# Altium schematic symbol library Schlib.SchLib: 26 symbols
Pins are listed as number, name and electrical type; pins without a type are passive.

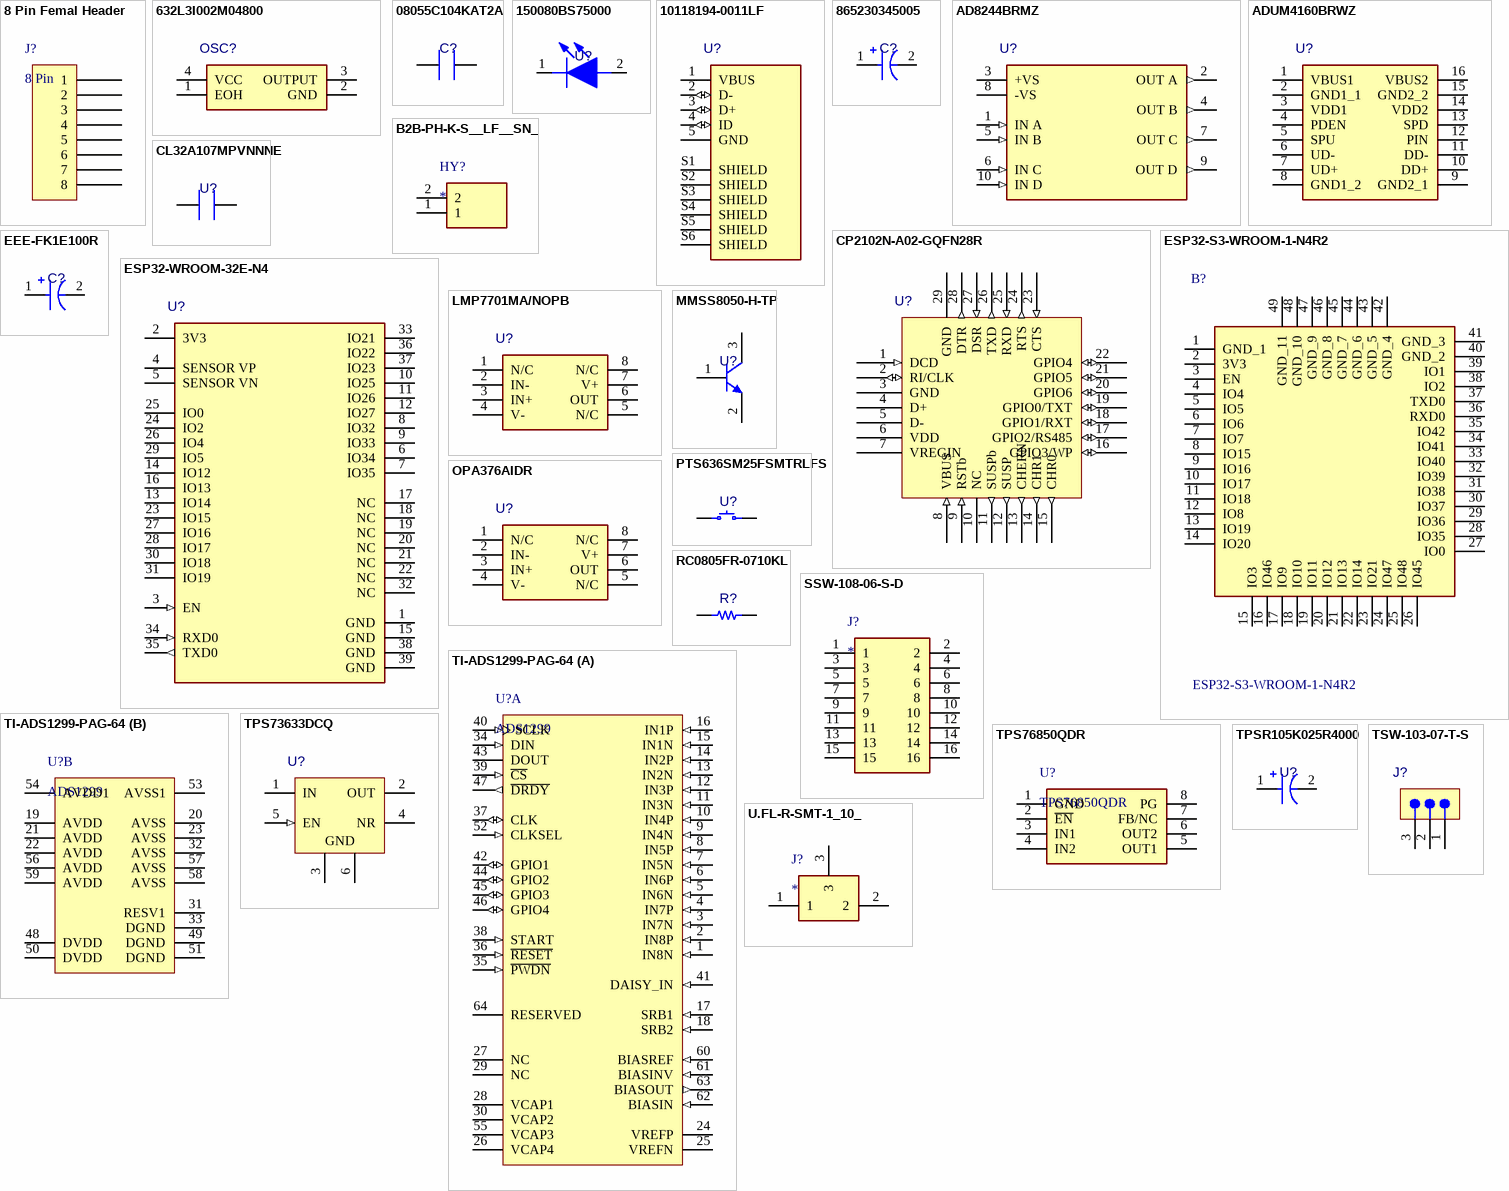
[diagram p0: symbols 8 Pin Femal Header to U.FL-R-SMT-1_10_]

## 8 Pin Femal Header
designator J?, comment 8 Pin
footprint SAMTEC SSW-108-03-T-S
pins: 1, 2, 3, 4, 5, 6, 7, 8

## 632L3I002M04800
designator OSC?  (value not drawn)
Standard Clock Oscillators 2.048MHz 3.3V 50ppm; Manufacturer: ???; Manufacturer Part Number: 632L3I002M04800; Publisher: Paraqum Technologies; Part Number: *; Value: *; Voltage: *; Tolerance: *; ComponentLink1Description: Datasheet; Current Rating: *; Supplier 1: Mouser; RoHS: Yes; Category: Oscillators; Stock 1: 5448; Pricing 1: 1=1.4, 10=1.31, 50=1.31, 100=1.13, 1000=0.919, 10000=0.843 (USD); ComponentLink2URL: http://www.ctscorp.com/wp-content/uploads/2015/11/008-0328-0.pdf?src-supplier=Digi-Key; ComponentLink2Description: http://www.ctscorp.com/wp-content/uploads/2015/11/008-0328-0.pdf?src-supplier=Digi-Key; ComponentLink3URL: http://www.ctscorp.com/wp-content/uploads/2015/11/008-0328-0.pdf?src-supplier=Avnet; ComponentLink3Description: http://www.ctscorp.com/wp-content/uploads/2015/11/008-0328-0.pdf?src-supplier=Avnet; ComponentLink4URL: http://www.ctscorp.com/CHN/components/Datasheets/008-0328-0_A.pdf?src-supplier=Mouser; ComponentLink4Description: http://www.ctscorp.com/CHN/components/Datasheets/008-0328-0_A.pdf?src-supplier=Mouser; Supplier Part Number 1: 774-632L3I002M04800
footprint 632L3I002M04800
pins: 1 EOH, 2 GND, 3 OUTPUT, 4 VCC

## 08055C104KAT2A
designator C?  (value not drawn)
Ceramic Capacitor, Multilayer, Ceramic, 50V, 10% +Tol, 10% -Tol, X7R, 15% TC, 0.1uF, Surface Mount, 0805; Manufacturer: ???; Manufacturer Part Number: 08055C104KAT2A; Capacitance: 100nF; Multilayer: Yes; Part Number: *; Value: *; Voltage: *; Tolerance: *; ComponentLink1Description: Datasheet; Current Rating: *; Supplier 1: Mouser; RoHS: Yes; Category: Ceramic Capacitors; Stock 1: 1865681; Pricing 1: 1=0.1, 10=0.037, 50=0.037, 100=0.022, 1000=0.017, 10000=0.013 (USD); Mount: Surface Mount; Number of Pins: 2; Dielectric Material: Ceramic; Package Shape: Rectangular; Size Code: 0805; Terminal Finish: Nickel; Min Operating Temperature: -55°C; Max Operating Temperature: 125°C; JESD-609 Code: e3; Capacitor Type: Ceramic; Negative Tolerance: 10%; Package Style: SMTMeter; Packaging: Tape and Reel; Positive Tolerance: 10%; Rated DC Voltage (URdc): 50V; Temperature Characteristics Code: X7R; Termination: Wraparound; Length: 2.01mm; Width: 1.25mm; Height: 0.94mm; Reach SVHC Compliant: Yes; RoHS Compliant: Yes; ComponentLink2URL: https://datasheet.ciiva.com:443/pdfs/VipMasterIC/IC/AVXC/AVXC-S-A0009640452/AVXC-S-A0009640452-1.pdf?src-supplier=IHS+Markit; ComponentLink2Description: https://datasheet.ciiva.com:443/pdfs/VipMasterIC/IC/AVXC/AVXC-S-A0009640452/AVXC-S-A0009640452-1.pdf?src-supplier=IHS+Markit; ComponentLink3URL: https://datasheet.ciiva.com/19475/2009691-19475858.pdf?src-supplier=Jameco; ComponentLink3Description: https://datasheet.ciiva.com/19475/2009691-19475858.pdf?src-supplier=Jameco; ComponentLink4URL: https://datasheet.ciiva.com/11786/0900766b802d4698-11786116.pdf?src-supplier=Rs; ComponentLink4Description: https://datasheet.ciiva.com/11786/0900766b802d4698-11786116.pdf?src-supplier=Rs; ComponentLink5URL: https://datasheet.ciiva.com/2988/cx7r-2988014.pdf?src-supplier=Avnet; ComponentLink5Description: https://datasheet.ciiva.com/2988/cx7r-2988014.pdf?src-supplier=Avnet; ComponentLink6URL: https://datasheet.ciiva.com/16199/cx7r-16199014.pdf?src-supplier=Future+Electronics; ComponentLink6Description: https://datasheet.ciiva.com/16199/cx7r-16199014.pdf?src-supplier=Future+Electronics; ComponentLink7URL: https://datasheet.ciiva.com/11504/cx7r-11504044.pdf?src-supplier=Avnet; ComponentLink7Description: https://datasheet.ciiva.com/11504/cx7r-11504044.pdf?src-supplier=Avnet; ComponentLink8URL: https://datasheet.ciiva.com/150/cx7r-150258.pdf?src-supplier=Digi-Key; ComponentLink8Description: https://datasheet.ciiva.com/150/cx7r-150258.pdf?src-supplier=Digi-Key; ComponentLink9URL: https://datasheet.ciiva.com/150/cx7r-150257.pdf?src-supplier=Digi-Key; ComponentLink9Description: https://datasheet.ciiva.com/150/cx7r-150257.pdf?src-supplier=Digi-Key; ComponentLink10URL: https://datasheet.ciiva.com/150/cx7r-150259.pdf?src-supplier=Digi-Key; ComponentLink10Description: https://datasheet.ciiva.com/150/cx7r-150259.pdf?src-supplier=Digi-Key; ComponentLink11URL: https://datasheet.ciiva.com/7812/cx7r-7812079.pdf?src-supplier=Element14; ComponentLink11Description: https://datasheet.ciiva.com/7812/cx7r-7812079.pdf?src-supplier=Element14; ComponentLink12URL: https://datasheet.ciiva.com/5416/cx7r-5416959.pdf?src-supplier=Mouser; ComponentLink12Description: https://datasheet.ciiva.com/5416/cx7r-5416959.pdf?src-supplier=Mouser; Supplier Part Number 1: 581-08055C104K
footprint CAP0805 (Chip Capacitor, 2-Leads, Body 2.00x1.25mm, IPC Medium Density)
footprint CAP 0603_1608 (Chip Capacitor, 2-Leads, Body 1.60x0.80mm, IPC Medium Density)
pins: 1, 2

## 150080BS75000
designator U?  (value not drawn)
Single Color LED, Blue, Water Clear, 1.4mm; Manufacturer: ???; Manufacturer Part Number: 150080BS75000; Shape: Rectangular; Forward Current-Max: 30mA; Luminous Intensity-Nom: 145mcd; Number of Functions: 1; Viewing Angle: 140°; Overall Height: 0.7mm; Publisher: Paraqum Technologies; Part Number: *; Value: *; Voltage: *; Tolerance: *; ComponentLink1Description: Datasheet; Current Rating: *; Supplier 1: Mouser; RoHS: Yes; Category: LEDs; Stock 1: 191914; Pricing 1: 1=0.19, 10=0.187, 50=0.176, 100=0.151, 1000=0.131, 10000=0.131 (USD); Mount: Surface Mount; Number of Pins: 2; Color: Blue; Min Operating Temperature: -40°C; Max Operating Temperature: 85°C; Lens Style: WATER CLEAR; Optoelectronic Device Type: SINGLE COLOR LED; Packaging: Tape and Reel; Size: 1.4mm; Terminal Pitch: 2.1mm; RoHS Compliant: Yes; Reach SVHC Compliant: Yes; ComponentLink2URL: https://datasheet.ciiva.com:443/pdfs/VipMasterIC/IC/MIDC/MIDC-S-A0007455543/MIDC-S-A0007455543-1.pdf?src-supplier=IHS+Markit; ComponentLink2Description: https://datasheet.ciiva.com:443/pdfs/VipMasterIC/IC/MIDC/MIDC-S-A0007455543/MIDC-S-A0007455543-1.pdf?src-supplier=IHS+Markit; ComponentLink3URL: https://datasheet.ciiva.com/22656/1740214-22656954.pdf?src-supplier=Element14; ComponentLink3Description: https://datasheet.ciiva.com/22656/1740214-22656954.pdf?src-supplier=Element14; ComponentLink4URL: https://datasheet.ciiva.com/23843/150080bs75000-23843251.pdf?src-supplier=Newark; ComponentLink4Description: https://datasheet.ciiva.com/23843/150080bs75000-23843251.pdf?src-supplier=Newark; ComponentLink5URL: https://datasheet.ciiva.com/29279/759433-da-01-en-chipled-0805-w-kl-blau-150080bs75000-29279203.pdf?src-supplier=Conrad; ComponentLink5Description: https://datasheet.ciiva.com/29279/759433-da-01-en-chipled-0805-w-kl-blau-150080bs75000-29279203.pdf?src-supplier=Conrad; ComponentLink6URL: https://datasheet.ciiva.com/29562/150080bs75000-29562923.pdf?src-supplier=Digi-Key; ComponentLink6Description: https://datasheet.ciiva.com/29562/150080bs75000-29562923.pdf?src-supplier=Digi-Key; ComponentLink7URL: https://datasheet.ciiva.com/29562/150080bs75000-29562922.pdf?src-supplier=Digi-Key; ComponentLink7Description: https://datasheet.ciiva.com/29562/150080bs75000-29562922.pdf?src-supplier=Digi-Key; Supplier Part Number 1: 710-150080BS75000
footprint LEDC2012X80N
pins: 1 K, 2 A

## 10118194-0011LF
designator U?  (value not drawn)
USB - micro B USB 2.0 Receptacle Connector 5 Position Surface Mount, Right Angle; Manufacturer: ???; Manufacturer Part Number: 10118194-0011LF; Publisher: Paraqum Technologies; Part Number: *; Value: *; Voltage: *; Tolerance: *; ComponentLink1Description: Datasheet; Current Rating: *; Supplier 1: Mouser; RoHS: No; Category: Connectors; Stock 1: 18804; Pricing 1: 1=0.59, 10=0.49, 50=0.49, 100=0.419, 1000=0.342, 10000=0.237 (USD); Supplier Part Number 1: 649-10118194-0011LF
footprint AMPHENOL_10118194-0011LF
pins: 1 VBUS (power), 2 D- (io), 3 D+ (io), 4 ID (io), 5 GND (power), S1 SHIELD, S2 SHIELD, S3 SHIELD, S4 SHIELD, S5 SHIELD, S6 SHIELD

## 865230345005
designator C?  (value not drawn)
WCAP-AS5H Aluminum Electrolytic Capacitors; Manufacturer: ???; Manufacturer Part Number: 865230345005; Publisher: Paraqum Technologies; Part Number: *; Value: *; Voltage: *; Tolerance: *; ComponentLink1Description: Datasheet; Current Rating: *; Supplier 1: Mouser; RoHS: Yes; Category: Aluminum Electrolytic Capacitors; Stock 1: 13677; Pricing 1: 1=0.33, 10=0.33, 50=0.281, 100=0.245, 1000=0.185, 10000=0.185 (USD); ComponentLink2URL: http://www.farnell.com/datasheets/1880265.pdf?src-supplier=Farnell; ComponentLink2Description: http://www.farnell.com/datasheets/1880265.pdf?src-supplier=Farnell; ComponentLink3URL: http://www.farnell.com/datasheets/1880265.pdf?src-supplier=Element14; ComponentLink3Description: http://www.farnell.com/datasheets/1880265.pdf?src-supplier=Element14; ComponentLink4URL: http://www.farnell.com/datasheets/1880265.pdf?src-supplier=Newark; ComponentLink4Description: http://www.farnell.com/datasheets/1880265.pdf?src-supplier=Newark; ComponentLink5URL: http://katalog.we-online.de/pbs/datasheet/865230345005.pdf?src-supplier=Digi-Key; ComponentLink5Description: http://katalog.we-online.de/pbs/datasheet/865230345005.pdf?src-supplier=Digi-Key; ComponentLink6URL: https://katalog.we-online.de/pbs/datasheet/865230345005.pdf?src-supplier=Digi-Key; ComponentLink6Description: https://katalog.we-online.de/pbs/datasheet/865230345005.pdf?src-supplier=Digi-Key; Supplier Part Number 1: 710-865230345005
footprint CAP ALSMD ELEC 6.6MM H7.7MM (Aluminum SMD Electrolytic Capacitor, 6.60mm Land Size, 6.30mm Diameter, 7.70mm Height, 8.00mm Maximum Leads Span)
pins: 1 C, 2 A

## AD8244BRMZ
designator U?  (value not drawn)
Buffer Amplifier, 4 Func, BIPolar, PDSO10; Manufacturer: ???; Manufacturer Part Number: AD8244BRMZ; Package Body Material: Plastic; Average Bias Current-Max (IIB): 2pA; Bandwidth (3dB)-Nom: 3.3MHz; Bias Current-Max (IIB) @25C: 3pA; Input Offset Voltage-Max: 350uV; Neg Supply Voltage Limit-Max: -18V; Neg Supply Voltage-Nom (Vsup): -5V; Number of Functions: 4; Package Equivalence Code: TSSOP10,.19,20; Power Supplies: +-5/+-15V; Slew Rate: 0.8V/µs; Max Supply Current: 1.2mA; Supply Voltage Limit-Max: 18V; Supply Voltage-Nom (Vsup): 5V; Qualification Status: Not Qualified; Publisher: Paraqum Technologies; Part Number: *; Value: *; Voltage: *; Tolerance: *; ComponentLink1Description: Datasheet; Current Rating: *; Supplier 1: Mouser; RoHS: Yes; Category: Amplifiers - Op Amps, Buffer, Instrumentation; Stock 1: 3011; Pricing 1: 1=8.33, 10=7.52, 50=7.16, 100=6.22, 1000=4.94, 10000=4.94 (USD); Package Code: TSSOP; Number of Pins: 10; Package Shape: Square; Min Operating Temperature: -40°C; Max Operating Temperature: 85°C; Amplifier Type: BUFFER; JESD-30 Code: S-PDSO-G10; Package Style: SMALL OUTLINE, THIN PROFILE, SHRINK PITCHMeter; Surface Mount: Yes; Technology: BIPOLAR; Terminal Form: Gull Wing; Terminal Position: DUAL; Length: 3mm; Width: 3mm; Height - Seated (Max): 1.1mm; Terminal Pitch: 0.5mm; Reach SVHC Compliant: Yes; RoHS Compliant: Yes; Temperature Grade: INDUSTRIAL; ComponentLink2URL: https://datasheet.ciiva.com:443/pdfs/VipMasterIC/IC/ANDI/ANDI-S-A0000496428/ANDI-S-A0000496428-1.pdf?src-supplier=IHS+Markit; ComponentLink2Description: https://datasheet.ciiva.com:443/pdfs/VipMasterIC/IC/ANDI/ANDI-S-A0000496428/ANDI-S-A0000496428-1.pdf?src-supplier=IHS+Markit; ComponentLink3URL: https://datasheet.ciiva.com/29970/ad8244-29970485.pdf?src-supplier=Avnet; ComponentLink3Description: https://datasheet.ciiva.com/29970/ad8244-29970485.pdf?src-supplier=Avnet; Supplier Part Number 1: 584-AD8244BRMZ
footprint FP-RM-10-IPC_B
pins: 1 IN A (in), 2 OUT A (out), 3 +VS (power), 4 OUT B (out), 5 IN B (in), 6 IN C (in), 7 OUT C (out), 8 -VS (power), 9 OUT D (out), 10 IN D (in)

## ADUM4160BRWZ
designator U?  (value not drawn)
Interface Circuit, CMOS, PDSO16; Manufacturer: ???; Manufacturer Part Number: ADUM4160BRWZ; Package Body Material: Plastic; Analog IC - Other Type: ANALOG CIRCUIT; Number of Functions: 1; Package Equivalence Code: SOP16,.4; Power Supplies: 3.3,5V; Supply Voltage-Max (Vsup): 5.5V; Supply Voltage-Min (Vsup): 3.1V; Supply Voltage-Nom (Vsup): 3.3V; Time @ Peak Reflow Temperature-Max (s): 40s; Qualification Status: Not Qualified; Publisher: Paraqum Technologies; Part Number: *; Value: *; Voltage: *; Tolerance: *; ComponentLink1Description: Datasheet; Current Rating: *; Supplier 1: Mouser; RoHS: Yes; Category: Interface ICs; Stock 1: 6804; Pricing 1: 1=13.89, 10=12.76, 50=12.24, 100=10.25, 1000=9.36, 10000=9.36 (USD); Package Code: SOP; Number of Pins: 16; Package Shape: Rectangular; Terminal Finish: Tin; Min Operating Temperature: -40°C; Max Operating Temperature: 105°C; JESD-609 Code: e3; JESD-30 Code: R-PDSO-G16; Moisture Sensitivity Level: 3; Package Style: SMALL OUTLINEMeter; Surface Mount: Yes; Technology: CMOS; Terminal Form: Gull Wing; Terminal Position: DUAL; Peak Reflow Temperature (Cel): 260°C; Length: 10.3mm; Width: 7.5mm; Height - Seated (Max): 2.65mm; Terminal Pitch: 1.27mm; Temperature Grade: INDUSTRIAL; Reach SVHC Compliant: Yes; RoHS Compliant: Yes; ComponentLink2URL: https://datasheet.ciiva.com:443/pdfs/VipMasterIC/IC/ANDI/ANDIS12222/ANDIS12222-1.pdf?src-supplier=IHS+Markit; ComponentLink2Description: https://datasheet.ciiva.com:443/pdfs/VipMasterIC/IC/ANDI/ANDIS12222/ANDIS12222-1.pdf?src-supplier=IHS+Markit; ComponentLink3URL: https://datasheet.ciiva.com/14185/adum4160-eng-tds-14185966.pdf?src-supplier=Distrelec; ComponentLink3Description: https://datasheet.ciiva.com/14185/adum4160-eng-tds-14185966.pdf?src-supplier=Distrelec; ComponentLink4URL: https://datasheet.ciiva.com/15134/getdatasheetpartid-307565-15134708.pdf?src-supplier=Verical; ComponentLink4Description: https://datasheet.ciiva.com/15134/getdatasheetpartid-307565-15134708.pdf?src-supplier=Verical; ComponentLink5URL: https://datasheet.ciiva.com/11772/0900766b80e480ef-11772203.pdf?src-supplier=Rs; ComponentLink5Description: https://datasheet.ciiva.com/11772/0900766b80e480ef-11772203.pdf?src-supplier=Rs; ComponentLink6URL: https://datasheet.ciiva.com/1148/1700957-1148095.pdf?src-supplier=Element14; ComponentLink6Description: https://datasheet.ciiva.com/1148/1700957-1148095.pdf?src-supplier=Element14; ComponentLink7URL: https://datasheet.ciiva.com/1148/1700957-1148094.pdf?src-supplier=Element14; ComponentLink7Description: https://datasheet.ciiva.com/1148/1700957-1148094.pdf?src-supplier=Element14; ComponentLink8URL: https://datasheet.ciiva.com/2081/adum4160-2081949.pdf?src-supplier=Digi-Key; ComponentLink8Description: https://datasheet.ciiva.com/2081/adum4160-2081949.pdf?src-supplier=Digi-Key; Supplier Part Number 1: 584-ADUM4160BRWZ
footprint SOIC127P1030X265-16N (SOIC, 16-Leads, Body 10.30x7.50mm, Pitch 1.27mm, IPC Medium Density)
pins: 1 VBUS1, 2 GND1_1, 3 VDD1, 4 PDEN, 5 SPU, 6 UD-, 7 UD+, 8 GND1_2, 9 GND2_1, 10 DD+, 11 DD-, 12 PIN, 13 SPD, 14 VDD2, 15 GND2_2, 16 VBUS2

## B2B-PH-K-S__LF__SN_
designator HY?
Circulator or Directional Coupler; Manufacturer_Name: JST (JAPAN SOLDERLESS TERMINALS); Manufacturer_Part_Number: B2B-PH-K-S (LF)(SN); Datasheet Link: http://www.jst-mfg.com/product/pdf/eng/ePH.pdf; Height: 6mm
footprint B2BPHKSLFSN
pins: 1, 2

## CL32A107MPVNNNE
designator U?  (value not drawn)
Ceramic Capacitor, Multilayer, Ceramic, 10V, 20% +Tol, 20% -Tol, X5R, 15% TC, 100uF, Surface Mount, 1210; Manufacturer: ???; Manufacturer Part Number: CL32A107MPVNNNE; Multilayer: Yes; Publisher: Paraqum Technologies; Part Number: *; Value: *; Voltage: *; Tolerance: *; ComponentLink1Description: Datasheet; Current Rating: *; Supplier 1: Mouser; RoHS: Yes; Category: Ceramic Capacitors; Stock 1: 59809; Pricing 1: 1=1.07, 10=0.66, 50=0.66, 100=0.581, 1000=0.386, 10000=0.325 (USD); Mount: Surface Mount; Number of Pins: 2; Dielectric Material: Ceramic; Package Shape: Rectangular; Size Code: 1210; Terminal Finish: Nickel; Min Operating Temperature: -55°C; Max Operating Temperature: 85°C; JESD-609 Code: e3; Capacitance: 100uF; Capacitor Type: Ceramic; Negative Tolerance: 20%; Package Style: SMTMeter; Packaging: Tape and Reel; Positive Tolerance: 20%; Rated DC Voltage (URdc): 10V; Temperature Characteristics Code: X5R; Termination: Wraparound; Length: 3.2mm; Width: 2.5mm; Height: 2.8mm; Reach SVHC Compliant: Yes; RoHS Compliant: Yes; ComponentLink2URL: https://datasheet.ciiva.com:443/pdfs/VipMasterIC/IC/SEMS/SEMS-S-A0008524842/SEMS-S-A0008524698-1.pdf?src-supplier=IHS+Markit; ComponentLink2Description: https://datasheet.ciiva.com:443/pdfs/VipMasterIC/IC/SEMS/SEMS-S-A0008524842/SEMS-S-A0008524698-1.pdf?src-supplier=IHS+Markit; ComponentLink3URL: https://datasheet.ciiva.com/26947/getdatasheetpartid-468228-26947022.pdf?src-supplier=Verical; ComponentLink3Description: https://datasheet.ciiva.com/26947/getdatasheetpartid-468228-26947022.pdf?src-supplier=Verical; Supplier Part Number 1: 187-CL32A107MPVNNNE
footprint CAP1210 (Chip Capacitor, 2-Leads, Body 3.20x2.50mm, IPC Medium Density)
pins: 1, 2

## CP2102N-A02-GQFN28R
designator U?  (value not drawn)
USB Bus Controller, CMOS; Manufacturer: ???; Manufacturer Part Number: CP2102N-A02-GQFN28R; Publisher: Paraqum Technologies; Part Number: *; Value: *; Voltage: *; Tolerance: *; ComponentLink1Description: Datasheet; Current Rating: *; Supplier 1: Mouser; RoHS: Yes; Category: USB Interface ICs; Stock 1: 134938; Pricing 1: 1=4.35, 10=3.77, 50=3.39, 100=3.09, 1000=2.26, 10000=2.1 (USD); ComponentLink2URL: https://datasheet.ciiva.com:443/pdfs/VipMasterIC/IC/SILC/SILC-S-A0007770867/SILC-S-A0007770867-1.pdf?src-supplier=IHS+Markit; ComponentLink2Description: https://datasheet.ciiva.com:443/pdfs/VipMasterIC/IC/SILC/SILC-S-A0007770867/SILC-S-A0007770867-1.pdf?src-supplier=IHS+Markit; Supplier Part Number 1: 634-CP2102NA02QFN28R
footprint QFN50P500X500X80_HS-29N (QFN, 28-Leads, Body 5.00x5.00mm, Pitch 0.50mm, Thermal Pad 3.25x3.25mm, IPC Medium Density)
pins: 1 DCD (in), 2 RI/CLK (io), 3 GND (power), 4 D+, 5 D-, 6 VDD (power), 7 VREGIN, 8 VBUS (in), 9 RSTb (in), 10 NC (hiz), 11 SUSPb (out), 12 SUSP (out), 13 CHERN (out), 14 CHR1 (out), 15 CHR0 (out), 16 GPIO3/WP (io), 17 GPIO2/RS485 (io), 18 GPIO1/RXT (io), 19 GPIO0/TXT (io), 20 GPIO6 (io), 21 GPIO5 (io), 22 GPIO4 (io), 23 CTS (in), 24 RTS (out), 25 RXD (in), 26 TXD (out), 27 DSR (in), 28 DTR (out), 29 GND (power)

## EEE-FK1E100R
designator C?  (value not drawn)
Aluminum Electrolytic Capacitor, Polarized, Aluminum (wet), 25V, 20% +Tol, 20% -Tol, 10uF, Surface Mount, 1717; Manufacturer: ???; Manufacturer Part Number: EEE-FK1E100R; Dielectric Material: Aluminium; Leakage Current: 2.5uA; Ripple Current: 67.5mA; Tan Delta: 0.14; Reference Standard: AEC-Q200; Part Number: *; Value: *; Voltage: *; Tolerance: *; ComponentLink1Description: Datasheet; Current Rating: *; Supplier 1: Mouser; RoHS: Yes; Category: Aluminum Electrolytic Capacitors; Stock 1: 28194; Pricing 1: 1=0.5, 10=0.342, 50=0.239, 100=0.205, 1000=0.145, 10000=0.136 (USD); Mount: Surface Mount; Number of Pins: 2; Size Code: 1717; Min Operating Temperature: -55°C; Max Operating Temperature: 105°C; Polarity: Polarized; Capacitance: 10uF; Capacitor Type: Aluminium; Negative Tolerance: 20%; Package Style: SMTMeter; Packaging: Tape and Reel; Positive Tolerance: 20%; Rated DC Voltage (URdc): 25V; Termination: Flat; Length: 5.5mm; Width: 4.3mm; Height: 5.8mm; Reach SVHC Compliant: Yes; RoHS Compliant: Yes; ComponentLink2URL: https://datasheet.ciiva.com:443/pdfs/VipMasterIC/IC/PANA/PANA-S-A0009615195/PANA-S-A0009615195-1.pdf?src-supplier=IHS+Markit; ComponentLink2Description: https://datasheet.ciiva.com:443/pdfs/VipMasterIC/IC/PANA/PANA-S-A0009615195/PANA-S-A0009615195-1.pdf?src-supplier=IHS+Markit; ComponentLink3URL: https://datasheet.ciiva.com/27052/1357642-27052071.pdf?src-supplier=Jameco; ComponentLink3Description: https://datasheet.ciiva.com/27052/1357642-27052071.pdf?src-supplier=Jameco; ComponentLink4URL: https://datasheet.ciiva.com/43463/58258-43463510.pdf?src-supplier=Farnell; ComponentLink4Description: https://datasheet.ciiva.com/43463/58258-43463510.pdf?src-supplier=Farnell; ComponentLink5URL: https://datasheet.ciiva.com/46388/58258-46388648.pdf?src-supplier=Element14; ComponentLink5Description: https://datasheet.ciiva.com/46388/58258-46388648.pdf?src-supplier=Element14; ComponentLink6URL: https://datasheet.ciiva.com/24069/aba0000ce120-24069487.pdf?src-supplier=Mouser; ComponentLink6Description: https://datasheet.ciiva.com/24069/aba0000ce120-24069487.pdf?src-supplier=Mouser; ComponentLink7URL: https://datasheet.ciiva.com/43485/1676921-43485493.pdf?src-supplier=Farnell; ComponentLink7Description: https://datasheet.ciiva.com/43485/1676921-43485493.pdf?src-supplier=Farnell; ComponentLink8URL: https://datasheet.ciiva.com/46388/1676921-46388649.pdf?src-supplier=Element14; ComponentLink8Description: https://datasheet.ciiva.com/46388/1676921-46388649.pdf?src-supplier=Element14; ComponentLink9URL: https://datasheet.ciiva.com/6121/1676921-6121167.pdf?src-supplier=Farnell; ComponentLink9Description: https://datasheet.ciiva.com/6121/1676921-6121167.pdf?src-supplier=Farnell; ComponentLink10URL: https://datasheet.ciiva.com/46376/1676921-46376489.pdf?src-supplier=Element14; ComponentLink10Description: https://datasheet.ciiva.com/46376/1676921-46376489.pdf?src-supplier=Element14; ComponentLink11URL: https://datasheet.ciiva.com/2983/aba0000ce120-2983947.pdf?src-supplier=Avnet; ComponentLink11Description: https://datasheet.ciiva.com/2983/aba0000ce120-2983947.pdf?src-supplier=Avnet; ComponentLink12URL: https://datasheet.ciiva.com/16449/aba0000ce120-16449400.pdf?src-supplier=Future+Electronics; ComponentLink12Description: https://datasheet.ciiva.com/16449/aba0000ce120-16449400.pdf?src-supplier=Future+Electronics; ComponentLink13URL: https://datasheet.ciiva.com/30199/aba0000ce120-30199257.pdf?src-supplier=Onlinecomponents.com; ComponentLink13Description: https://datasheet.ciiva.com/30199/aba0000ce120-30199257.pdf?src-supplier=Onlinecomponents.com; ComponentLink14URL: https://datasheet.ciiva.com/15166/getdatasheetpartid-134702-15166021.pdf?src-supplier=Verical; ComponentLink14Description: https://datasheet.ciiva.com/15166/getdatasheetpartid-134702-15166021.pdf?src-supplier=Verical; Supplier Part Number 1: 667-EEE-FK1E100R
footprint CAP ALSMD ELEC 4.3MM H5.4MM (Aluminum SMD Electrolytic Capacitor, 4.30mm Land Size, 4.00mm Diameter, 5.40mm Height, 4.60mm Maximum Leads Span)
pins: 1 C, 2 A

## ESP32-S3-WROOM-1-N4R2
designator B?
Bluetooth, WiFi 802.11b/g/n, Bluetooth v5.0 Transceiver Module 2.4GHz PCB Trace Surface Mount; Manufacturer_Name: Espressif Systems; Geometry.Height: 3.25mm; Manufacturer_Part_Number: ESP32-S3-WROOM-1-N4R2; Mouser Part Number: 356-ESP32S3WROM1N4R2; Mouser Price/Stock: https://www.mouser.co.uk/ProductDetail/Espressif-Systems/ESP32-S3-WROOM-1-N4R2?qs=Li%252BoUPsLEns3eX9krmrDyw%3D%3D; Arrow Part Number: *; Arrow Price/Stock: *; Datasheet Link: https://www.espressif.com/sites/default/files/documentation/esp32-s3-wroom-1_wroom-1u_datasheet_en.pdf
pins: 1 GND_1, 2 3V3, 3 EN, 4 IO4, 5 IO5, 6 IO6, 7 IO7, 8 IO15, 9 IO16, 10 IO17, 11 IO18, 12 IO8, 13 IO19, 14 IO20, 15 IO3, 16 IO46, 17 IO9, 18 IO10, 19 IO11, 20 IO12, 21 IO13, 22 IO14, 23 IO21, 24 IO47, 25 IO48, 26 IO45, 27 IO0, 28 IO35, 29 IO36, 30 IO37, 31 IO38, 32 IO39, 33 IO40, 34 IO41, 35 IO42, 36 RXD0, 37 TXD0, 38 IO2, 39 IO1, 40 GND_2, 41 GND_3, 42 GND_4, 43 GND_5, 44 GND_6, 45 GND_7, 46 GND_8, 47 GND_9, 48 GND_10, 49 GND_11

## ESP32-WROOM-32E-N4
designator U?  (value not drawn)
Multiprotocol Modules SMD Module ESP32-WROOM-32E, ESP32-D0WD-V3, 4 MB SPI flash, PCB antenna; Manufacturer: ???; Manufacturer Part Number: ESP32-WROOM-32E-N4; Publisher: Paraqum Technologies; Part Number: *; Value: *; Voltage: *; Tolerance: *; ComponentLink1Description: Datasheet; Current Rating: *; Supplier 1: Mouser; RoHS: No; Category: Uncategorized; Stock 1: 36558; Pricing 1: 1=3, 10=3, 50=3, 100=3, 1000=3, 10000=3 (USD); Supplier Part Number 1: 356-ESP32WRM32E132PH
footprint FP-ESP32-WROOM-32E_4MB-MFG
pins: 1 GND (power), 2 3V3 (power), 3 EN (in), 4 SENSOR VP, 5 SENSOR VN, 6 IO34, 7 IO35, 8 IO32, 9 IO33, 10 IO25, 11 IO26, 12 IO27, 13 IO14, 14 IO12, 15 GND (power), 16 IO13, 17 NC, 18 NC, 19 NC, 20 NC, 21 NC, 22 NC, 23 IO15, 24 IO2, 25 IO0, 26 IO4, 27 IO16, 28 IO17, 29 IO5, 30 IO18, 31 IO19, 32 NC, 33 IO21, 34 RXD0 (in), 35 TXD0 (out), 36 IO22, 37 IO23, 38 GND (power), 39 GND (power)

## LMP7701MA/NOPB
designator U?  (value not drawn)
Operational Amplifier, 1 Func, 200uV Offset-Max, CMOS, PDSO8; Manufacturer: ???; Manufacturer Part Number: LMP7701MA/NOPB; Package Body Material: Plastic; Number of Functions: 1; Package Equivalence Code: SOP8,.25; Power Supplies: +-1.35/+-6/2.7/12V; Architecture: VOLTAGE-FEEDBACK; Average Bias Current-Max (IIB): 400pA; Bias Current-Max (IIB) @25C: 1pA; Common-mode Reject Ratio-Nom: 138dB; Frequency Compensation: YES; Input Offset Voltage-Max: 500uV; Neg Supply Voltage Limit-Max: -6.6V; Neg Supply Voltage-Nom (Vsup): -5V; Power: No; Slew Rate: 1.1V/µs; Max Supply Current: 1.2mA; Supply Voltage Limit-Max: 6.6V; Supply Voltage-Nom (Vsup): 5V; Unity Gain BW-Nom: 2.5MHz; Voltage Gain-Min: 63100; Qualification Status: Not Qualified; Publisher: Paraqum Technologies; Part Number: *; Value: *; Voltage: *; Tolerance: *; ComponentLink1Description: Datasheet; Current Rating: *; Supplier 1: Mouser; RoHS: Yes; Category: Amplifiers - Op Amps, Buffer, Instrumentation; Stock 1: 1064; Pricing 1: 1=3.68, 10=3.3, 50=3.12, 100=2.71, 1000=2.3, 10000=1.89 (USD); Package Code: SOP; Number of Pins: 8; Package Shape: Rectangular; Terminal Finish: Tin; Min Operating Temperature: -40°C; Max Operating Temperature: 125°C; JESD-609 Code: e3; JESD-30 Code: R-PDSO-G8; Moisture Sensitivity Level: 1; Package Style: SMALL OUTLINEMeter; Peak Reflow Temperature (Cel): 260°C; Surface Mount: Yes; Terminal Form: Gull Wing; Terminal Position: DUAL; Amplifier Type: OPERATIONAL AMPLIFIER; Low-Bias: Yes; Low-Offset: Yes; Micropower: Yes; Packaging: Rail/Tube; Programmable Power: No; Technology: CMOS; Wideband: No; Length: 4.9mm; Width: 3.9mm; Height - Seated (Max): 1.75mm; Terminal Pitch: 1.27mm; Temperature Grade: AUTOMOTIVE; Reach SVHC Compliant: Yes; RoHS Compliant: Yes; ComponentLink2URL: https://www.ti.com:443/lit/ds/symlink/lmp7701.pdf?src-supplier=IHS+Markit; ComponentLink2Description: https://www.ti.com:443/lit/ds/symlink/lmp7701.pdf?src-supplier=IHS+Markit; ComponentLink3URL: https://datasheet.ciiva.com/6627/lmp7701-6627701.pdf?src-supplier=Digi-Key; ComponentLink3Description: https://datasheet.ciiva.com/6627/lmp7701-6627701.pdf?src-supplier=Digi-Key; Supplier Part Number 1: 926-LMP7701MA/NOPB
footprint SOIC127P600X175-8N (SOIC, 8-Leads, Body 4.90x3.90mm, Pitch 1.27mm, IPC Medium Density)
pins: 1 N/C, 2 IN-, 3 IN+, 4 V-, 5 N/C, 6 OUT, 7 V+, 8 N/C

## MMSS8050-H-TP
designator U?  (value not drawn)
Small Signal Bipolar Transistor, 1.5A I(C), 25V V(BR)CEO, 1-Element, NPN, Silicon; Manufacturer: ???; Manufacturer Part Number: MMSS8050-H-TP; Package Body Material: Plastic; DC Current Gain-Min (hFE): 200; Number of Elements: 1; Power Dissipation-Max (Abs): 300mW; Time @ Peak Reflow Temperature-Max (s): 10s; Transition Frequency-Nom (fT): 100MHz; Qualification Status: Not Qualified; Publisher: Paraqum Technologies; Part Number: *; Value: *; Voltage: *; Tolerance: *; ComponentLink1Description: Datasheet; Current Rating: *; Supplier 1: Mouser; RoHS: Yes; Category: BJTs; Stock 1: 64780; Pricing 1: 1=0.21, 10=0.171, 50=0.171, 100=0.091, 1000=0.041, 10000=0.027 (USD); Number of Pins: 3; Package Shape: Rectangular; Terminal Finish: Tin; Transistor Element Material: SILICON; Max Operating Temperature: 150°C; JESD-609 Code: e3; Polarity/Channel Type: NPN; Max Collector Current: 1.5A; Collector-emitter Voltage-Max: 25V; JESD-30 Code: R-PDSO-G3; Moisture Sensitivity Level: 1; Package Style: SMALL OUTLINEMeter; Peak Reflow Temperature (Cel): 260°C; Surface Mount: Yes; Terminal Form: Gull Wing; Terminal Position: DUAL; Reach SVHC Compliant: Yes; RoHS Compliant: Yes; ComponentLink2URL: https://datasheet.ciiva.com:443/pdfs/VipMasterIC/IC/MCCC/MCCC-S-A0009689717/MCCC-S-A0009689962-1.pdf?src-supplier=IHS+Markit; ComponentLink2Description: https://datasheet.ciiva.com:443/pdfs/VipMasterIC/IC/MCCC/MCCC-S-A0009689717/MCCC-S-A0009689962-1.pdf?src-supplier=IHS+Markit; ComponentLink3URL: https://datasheet.ciiva.com/16291/mmss8050-255048-16291447.pdf?src-supplier=Mouser; ComponentLink3Description: https://datasheet.ciiva.com/16291/mmss8050-255048-16291447.pdf?src-supplier=Mouser; ComponentLink4URL: https://datasheet.ciiva.com/972/mmss8050sot-23-972894.pdf?src-supplier=Digi-Key; ComponentLink4Description: https://datasheet.ciiva.com/972/mmss8050sot-23-972894.pdf?src-supplier=Digi-Key; ComponentLink5URL: https://datasheet.ciiva.com/972/mmss8050sot-23-972895.pdf?src-supplier=Digi-Key; ComponentLink5Description: https://datasheet.ciiva.com/972/mmss8050sot-23-972895.pdf?src-supplier=Digi-Key; ComponentLink6URL: https://datasheet.ciiva.com/972/mmss8050sot-23-972893.pdf?src-supplier=Digi-Key; ComponentLink6Description: https://datasheet.ciiva.com/972/mmss8050sot-23-972893.pdf?src-supplier=Digi-Key; Supplier Part Number 1: 833-MMSS8050-H-TP
footprint MCCSEMI SOT-23-3 (SOT23, 3-Leads, Body 2.92x2.37mm, Pitch 0.95mm, IPC Medium Density)
pins: 1 B, 2 E, 3 C

## OPA376AIDR
designator U?  (value not drawn)
Operational Amplifier, 1 Func, 25uV Offset-Max, CMOS, PDSO8; Manufacturer: ???; Manufacturer Part Number: OPA376AIDR; Package Body Material: Plastic; Architecture: VOLTAGE-FEEDBACK; Average Bias Current-Max (IIB): 10pA; Common-mode Reject Ratio-Nom: 90dB; Frequency Compensation: YES; Micropower: No; Number of Functions: 1; Package Equivalence Code: SOP8,.25; Power Supplies: 2.5/5V; Slew Rate-Min: 2V/µs; Max Supply Current: 1mA; Supply Voltage Limit-Max: 7V; Supply Voltage-Nom (Vsup): 2.2V; Unity Gain BW-Nom: 5.5MHz; Voltage Gain-Min: 1000000; Qualification Status: Not Qualified; Publisher: Paraqum Technologies; Part Number: *; Value: *; Voltage: *; Tolerance: *; ComponentLink1Description: Datasheet; Current Rating: *; Supplier 1: Mouser; RoHS: Yes; Category: Amplifiers - Op Amps, Buffer, Instrumentation; Stock 1: 7475; Pricing 1: 1=1.96, 10=1.77, 50=1.67, 100=1.42, 1000=0.967, 10000=0.88 (USD); Package Code: SOP; Number of Pins: 8; Package Shape: Rectangular; Terminal Finish: Nickel; Min Operating Temperature: -40°C; Max Operating Temperature: 125°C; JESD-609 Code: e4; Amplifier Type: OPERATIONAL AMPLIFIER; Bias Current-Max (IIB) @25C: 10pA; Input Offset Voltage-Max: 25uV; JESD-30 Code: R-PDSO-G8; Low-Bias: Yes; Low-Offset: Yes; Moisture Sensitivity Level: 2; Package Style: SMALL OUTLINEMeter; Packaging: Tape and Reel; Peak Reflow Temperature (Cel): 260°C; Power: No; Programmable Power: No; Slew Rate: 2V/µs; Surface Mount: Yes; Technology: CMOS; Terminal Form: Gull Wing; Terminal Position: DUAL; Wideband: No; Length: 4.9mm; Width: 3.9mm; Height - Seated (Max): 1.75mm; Terminal Pitch: 1.27mm; Temperature Grade: AUTOMOTIVE; Reach SVHC Compliant: Yes; RoHS Compliant: Yes; ComponentLink2URL: https://www.ti.com:443/lit/ds/symlink/opa2376.pdf?src-supplier=IHS+Markit; ComponentLink2Description: https://www.ti.com:443/lit/ds/symlink/opa2376.pdf?src-supplier=IHS+Markit; ComponentLink3URL: https://datasheet.ciiva.com/1813/opa2376-1813349.pdf?src-supplier=Digi-Key; ComponentLink3Description: https://datasheet.ciiva.com/1813/opa2376-1813349.pdf?src-supplier=Digi-Key; ComponentLink4URL: https://datasheet.ciiva.com/14456/opa376-14456360.pdf?src-supplier=Avnet; ComponentLink4Description: https://datasheet.ciiva.com/14456/opa376-14456360.pdf?src-supplier=Avnet; Supplier Part Number 1: 595-OPA376AIDR
footprint SOIC127P600X175-8N (SOIC, 8-Leads, Body 4.90x3.90mm, Pitch 1.27mm, IPC Medium Density)
pins: 1 N/C, 2 IN-, 3 IN+, 4 V-, 5 N/C, 6 OUT, 7 V+, 8 N/C

## PTS636SM25FSMTRLFS
designator U?  (value not drawn)
Keypad Switch, 1 Switches, SPST, Momentary-tactile, 0.05A, 12VDC, 2.06N, Solder Terminal, Surface Mount-straight; Manufacturer: ???; Manufacturer Part Number: PTS636SM25FSMTRLFS; Publisher: Paraqum Technologies; Part Number: *; Value: *; Voltage: *; Tolerance: *; ComponentLink1Description: Datasheet; Current Rating: *; Supplier 1: Mouser; RoHS: No; Stock 1: 13003; Pricing 1: 1=0.18, 10=0.174, 50=0.174, 100=0.15, 1000=0.108, 10000=0.092 (USD); RoHS Compliant: Yes; Supplier Part Number 1: 611-PTS636SM25FSMTRL
footprint PTS636SM25FSMTRLFS
pins: 1, 2

## RC0805FR-0710KL
designator R?  (value not drawn)
Fixed Resistor, Metal Glaze/thick Film, 0.125W, 10000ohm, 150V, 1% +/-Tol, 100ppm/Cel, Surface Mount, 0805; Manufacturer: ???; Manufacturer Part Number: RC0805FR-0710KL; Additional Feature: LASER TRIMMABLE; Rated Power Dissipation (P): 125mW; Rated Temperature: 70°C; Resistance: 10kR; Temperature Coefficient: 100ppm/°C; Package Height: 0.5mm; Package Length: 2mm; Package Width: 1.25mm; Publisher: Paraqum Technologies; Part Number: *; Value: *; Voltage: *; Tolerance: *; ComponentLink1Description: Datasheet; Current Rating: *; Supplier 1: Mouser; RoHS: Yes; Category: Chip SMD Resistors; Stock 1: 8413916; Pricing 1: 1=0.1, 10=0.034, 50=0.034, 100=0.014, 1000=0.007, 10000=0.004 (USD); Mount: Surface Mount; Number of Pins: 2; Package Shape: Rectangular; Size Code: 0805; Terminal Finish: Nickel; Min Operating Temperature: -55°C; Max Operating Temperature: 155°C; JESD-609 Code: e3; Termination: Wraparound; Resistor Type: FIXED RESISTOR; Construction: Chip; Package Style: SMTMeter; Packaging: Tape and Reel; Technology: METAL GLAZE/THICK FILM; Working Voltage: 150V; Reach SVHC Compliant: Yes; RoHS Compliant: Yes; ComponentLink2URL: https://datasheet.ciiva.com:443/pdfs/VipMasterIC/IC/YAGO/YAGO-S-A0008145938/YAGO-S-A0008145938-1.pdf?src-supplier=IHS+Markit; ComponentLink2Description: https://datasheet.ciiva.com:443/pdfs/VipMasterIC/IC/YAGO/YAGO-S-A0008145938/YAGO-S-A0008145938-1.pdf?src-supplier=IHS+Markit; ComponentLink3URL: https://datasheet.ciiva.com/46447/444164-46447563.pdf?src-supplier=Element14; ComponentLink3Description: https://datasheet.ciiva.com/46447/444164-46447563.pdf?src-supplier=Element14; ComponentLink4URL: https://datasheet.ciiva.com/2456/pyu-r-int-thick-7-2456973.pdf?src-supplier=Digi-Key; ComponentLink4Description: https://datasheet.ciiva.com/2456/pyu-r-int-thick-7-2456973.pdf?src-supplier=Digi-Key; ComponentLink5URL: https://datasheet.ciiva.com/2456/pyu-r-int-thick-7-2456974.pdf?src-supplier=Digi-Key; ComponentLink5Description: https://datasheet.ciiva.com/2456/pyu-r-int-thick-7-2456974.pdf?src-supplier=Digi-Key; ComponentLink6URL: https://datasheet.ciiva.com/2456/pyu-r-int-thick-7-2456972.pdf?src-supplier=Digi-Key; ComponentLink6Description: https://datasheet.ciiva.com/2456/pyu-r-int-thick-7-2456972.pdf?src-supplier=Digi-Key; ComponentLink7URL: https://datasheet.ciiva.com/12669/rc0805-12669688.pdf?src-supplier=Mouser; ComponentLink7Description: https://datasheet.ciiva.com/12669/rc0805-12669688.pdf?src-supplier=Mouser; ComponentLink8URL: https://datasheet.ciiva.com/16747/rc0805-16747087.pdf?src-supplier=Future+Electronics; ComponentLink8Description: https://datasheet.ciiva.com/16747/rc0805-16747087.pdf?src-supplier=Future+Electronics; Supplier Part Number 1: 603-RC0805FR-0710KL
footprint RES0805 (Chip Resistor, 2-Leads, Body 2.00x1.25mm, IPC Medium Density)
pins: 1, 2

## SSW-108-06-S-D
designator J?
Connector; Manufacturer_Name: SAMTEC; Manufacturer_Part_Number: SSW-108-06-S-D; Datasheet Link: http://suddendocs.samtec.com/prints/ssw-1xx-xx-xxx-x-xx-xxx-xx-mkt.pdf; Arrow Part Number: SSW-108-06-S-D; Arrow Price/Stock: https://www.arrow.com/en/products/ssw-108-06-s-d/samtec
footprint SSW-108-XX-YYY-D
pins: 1, 2, 3, 4, 5, 6, 7, 8, 9, 10, 11, 12, 13, 14, 15, 16

## TI-ADS1299-PAG-64
designator U?, comment ADS1299
Analog to Digital Converters - ADC Low-Noise, 6-Channel, 24-Bit Analog-to-Digital Converter for Biopotential Measurements 64-TQFP -40 to 85; DIGIKEY: 296-34818-1-ND
footprint TI-PAG64_N (QFP, 64-Leads, Body 10x10mm, Pitch 0.5mm, IPC Medium Density)
footprint TSQFP50P1200X1200X120-64N (TSQFP, 64-Leads, Body 10.00x10.00mm, Pitch 0.50mm, IPC Medium Density)
part A pins: 1 IN8N (in) "Differential analog negative input 8", 2 IN8P (in) "Differential analog positive input 8", 3 IN7N (in) "Differential analog negative input 7", 4 IN7P (in) "Differential analog positive input 7", 5 IN6N (in) "Differential analog negative input 6", 6 IN6P (in) "Differential analog positive input 6", 7 IN5N (in) "Differential analog negative input 5", 8 IN5P (in) "Differential analog positive input 5", 9 IN4N (in) "Differential analog negative input 4", 10 IN4P (in) "Differential analog positive input 4", 11 IN3N (in) "Differential analog negative input 3", 12 IN3P (in) "Differential analog positive input 3", 13 IN2N (in) "Differential analog negative input 2", 14 IN2P (in) "Differential analog positive input 2", 15 IN1N (in) "Differential analog negative input 1", 16 IN1P (in) "Differential analog positive input 1", 17 SRB1 (in) "Patient stimulus, reference, and bias signal 1", 18 SRB2 (in) "Patient stimulus, reference, and bias signal 2", 24 VREFP "Positive reference voltage", 25 VREFN "Negative reference voltage", 26 VCAP4 "Analog bypass capacitor", 27 NC "No connection", 28 VCAP1 "Analog bypass capacitor", 29 NC "No connection", 30 VCAP2 "Analog bypass capacitor", 34 DIN (in) "SPI data in", 35 ~{PWDN} (in) "Power-down; active low", 36 ~{RESET} (in) "System reset; active low", 37 CLK (io) "Master clock input", 38 START (in) "Start conversion", 39 ~{CS} (in) "SPI chip select; active low", 40 SCLK (in) "SPI clock", 41 DAISY_IN (in) "Daisy-chain input", 42 GPIO1 (io) "General-purpose input/output pin", 43 DOUT (hiz) "SPI data out", 44 GPIO2 (io) "General-purpose input/output pin", 45 GPIO3 (io) "GPIO3 in normal mode", 46 GPIO4 (io) "GPIO4 in normal mode", 47 ~{DRDY} (out) "Data ready; active low", 52 CLKSEL (in) "Master clock select", 55 VCAP3 "Analog bypass capacitor", 60 BIASREF (in) "Bias drive noninverting input", 61 BIASINV (in) "Bias drive inverting input", 62 BIASIN (in) "Bias drive input to MUX", 63 BIASOUT (out) "Bias drive output", 64 RESERVED "Leave as open circuit"
part B pins: 19 AVDD (power) "Analog supply", 20 AVSS (power) "Analog ground", 21 AVDD (power) "Analog supply", 22 AVDD (power) "Analog supply", 23 AVSS (power) "Analog ground", 31 RESV1 (power) "Reserved for future use. Must tie to logic low (DGND)", 32 AVSS (power) "Analog ground", 33 DGND (power) "Digital ground", 48 DVDD (power) "Digital power supply", 49 DGND (power) "Digital ground", 50 DVDD (power) "Digital power supply", 51 DGND (power) "Digital ground", 53 AVSS1 (power) "Analog ground", 54 AVDD1 (power) "Analog supply", 56 AVDD (power) "Analog supply", 57 AVSS (power) "Analog ground", 58 AVSS (power) "Charge pump analog ground", 59 AVDD (power) "Charge pump analog supply"

## TPS73633DCQ
designator U?  (value not drawn)
Fixed Positive LDO Regulator, 3.3V, 0.2V Dropout, BICMOS, PDSO6; Manufacturer: ???; Manufacturer Part Number: TPS73633DCQ; Package Body Material: Plastic; Dropout Voltage1-Max: 200mV; Dropout Voltage1-Nom: 75mV; Input Voltage Absolute-Max: 6V; Max Input Voltage: 5.5V; Min Input Voltage: 3.5V; Number of Functions: 1; Output Current1-Max: 400mA; Output Voltage1-Max: 3.333V; Output Voltage1-Min: 3.267V; Regulator Type: FIXED POSITIVE SINGLE OUTPUT LDO REGULATOR; Voltage Tolerance-Max: 1%; Qualification Status: Not Qualified; Publisher: Paraqum Technologies; Part Number: *; Value: *; Voltage: *; Tolerance: *; ComponentLink1Description: Datasheet; Current Rating: *; Supplier 1: Mouser; RoHS: Yes; Category: Voltage Regulators - Linear; Stock 1: 5912; Pricing 1: 1=2.95, 10=2.8, 50=2.65, 100=2.29, 1000=1.67, 10000=1.44 (USD); Package Code: SOP; Number of Pins: 6; Package Shape: Rectangular; Terminal Finish: Nickel; JESD-609 Code: e4; Adjustability: FIXED; JESD-30 Code: R-PDSO-G6; Moisture Sensitivity Level: 2; Number of Outputs: 1; Operating Temperature, TJ-Max: 125°C; Operating Temperature, TJ-Min: -40°C; Output Voltage1-Nom: 3.3V; Package Style: SMALL OUTLINEMeter; Packaging: Rail/Tube; Peak Reflow Temperature (Cel): 260°C; Surface Mount: Yes; Technology: BICMOS; Terminal Form: Gull Wing; Terminal Position: DUAL; Length: 6.5mm; Width: 3.5mm; Height - Seated (Max): 1.8mm; Terminal Pitch: 1.27mm; Reach SVHC Compliant: Yes; RoHS Compliant: Yes; ComponentLink2URL: https://www.ti.com:443/lit/ds/symlink/tps736.pdf?src-supplier=IHS+Markit; ComponentLink2Description: https://www.ti.com:443/lit/ds/symlink/tps736.pdf?src-supplier=IHS+Markit; ComponentLink3URL: https://datasheet.ciiva.com/2052/tps736-2052920.pdf?src-supplier=Digi-Key; ComponentLink3Description: https://datasheet.ciiva.com/2052/tps736-2052920.pdf?src-supplier=Digi-Key; Supplier Part Number 1: 595-TPS73633DCQ
footprint SOT127P706X180-6N
pins: 1 IN (power) "Unregulated input supply", 2 OUT (power) "Regulator output. A 1.0uF or larger capacitor of any type is required for stability.", 3 GND (power) "Ground", 4 NR "Fixed voltage versions only-connecting an external capacitor to this pin bypasses noise generated by the internal bandgap, reducing output noise to very low levels.", 5 EN (in) "Driving the enable pin (EN) high turns on the regulator. Driving this pin low puts the regulator into shutdown mode.EN must not be left floating and can be connected to IN if not used.", 6 GND (power) "Ground"

## TPS76850QDR
designator U?
LDO Voltage Regulators Micropower LDO Reg; Manufacturer_Name: Texas Instruments; Datasheet Link: https://www.ti.com/lit/ds/slvs211l/slvs211l.pdf; Height: 1.75mm; Manufacturer_Part_Number: TPS76850QDR; Mouser Part Number: 595-TPS76850QDR; Mouser Price/Stock: https://www.mouser.com/ProductDetail/Texas-Instruments/TPS76850QDR?qs=6zVL%252ByCp0moMPwCCXDl%252BJA%3D%3D; Arrow Part Number: TPS76850QDR; Arrow Price/Stock: https://www.arrow.com/en/products/tps76850qdr/texas-instruments
footprint SOIC127P600X175-8N (SOIC, 8-Leads, Body 4.90x3.90mm, Pitch 1.27mm, IPC Medium Density)
pins: 1 GND, 2 ~{EN}, 3 IN1, 4 IN2, 5 OUT1, 6 OUT2, 7 FB/NC, 8 PG

## TPSR105K025R4000
designator U?  (value not drawn)
Tantalum Capacitor, Polarized, Tantalum (dry/solid), 25V, 10% +Tol, 10% -Tol, 1uF, Surface Mount, 0805; Manufacturer: ???; Manufacturer Part Number: TPSR105K025R4000; ESR (Equivalent Series Resistance): 4R; Leakage Current: 500nA; Tan Delta: 0.04; Publisher: Paraqum Technologies; Part Number: *; Value: *; Voltage: *; Tolerance: *; ComponentLink1Description: Datasheet; Current Rating: *; Supplier 1: Mouser; RoHS: Yes; Category: Tantalum Capacitors; Stock 1: 11306; Pricing 1: 1=0.93, 10=0.656, 50=0.656, 100=0.431, 1000=0.272, 10000=0.205 (USD); Mount: Surface Mount; Number of Pins: 2; Dielectric Material: Tantalum; Package Shape: Rectangular; Size Code: 0805; Terminal Finish: Nickel; Min Operating Temperature: -55°C; Max Operating Temperature: 125°C; JESD-609 Code: e3; Polarity: Polarized; Capacitance: 1uF; Capacitor Type: Tantalum; Negative Tolerance: 10%; Package Style: SMTMeter; Packaging: Tape and Reel; Positive Tolerance: 10%; Rated DC Voltage (URdc): 25V; Termination: J BEND; Length: 2.05mm; Width: 1.3mm; Height: 1.2mm; Reach SVHC Compliant: Yes; RoHS Compliant: Yes; ComponentLink2URL: https://datasheet.ciiva.com:443/pdfs/VipMasterIC/IC/AVXC/AVXC-S-A0008980848/AVXC-S-A0008980848-1.pdf?src-supplier=IHS+Markit; ComponentLink2Description: https://datasheet.ciiva.com:443/pdfs/VipMasterIC/IC/AVXC/AVXC-S-A0008980848/AVXC-S-A0008980848-1.pdf?src-supplier=IHS+Markit; ComponentLink3URL: http://www.mouser.com/ds/2/40/tps-776850.pdf?src-supplier=Mouser; ComponentLink3Description: http://www.mouser.com/ds/2/40/tps-776850.pdf?src-supplier=Mouser; ComponentLink4URL: http://global.kyocera.com/prdct/electro/pdf/capacitors/taj-ce.pdf?src-supplier=Avnet; ComponentLink4Description: http://global.kyocera.com/prdct/electro/pdf/capacitors/taj-ce.pdf?src-supplier=Avnet; ComponentLink5URL: http://datasheets.avx.com/TPS.pdf?src-supplier=Digi-Key; ComponentLink5Description: http://datasheets.avx.com/TPS.pdf?src-supplier=Digi-Key; Supplier Part Number 1: 581-TPSR105K025R4000
footprint CAPC0805_TANT
pins: 1 C, 2 A

## TSW-103-07-T-S
designator J?  (value not drawn)
Board Connector, 3 Contact(s), 1 Row(s), Male, Straight, 0.1 inch Pitch, Solder Terminal, Black Insulator, Receptacle; Manufacturer: ???; Manufacturer Part Number: TSW-103-07-T-S; Option: General Purpose; Additional Feature: E.L.P.; Contact Pattern: RECTANGULAR; Contact Style: SQ PIN-SKT; Filter Feature: No; Mating Information: MULTIPLE MATING PARTS AVAILABLE; Number Of Connectors: 1; Number of Contacts: 3; Reference Standard: UL; Reliability: COMMERCIAL; Publisher: Paraqum Technologies; Part Number: *; Value: *; Voltage: *; Tolerance: *; ComponentLink1Description: Datasheet; Current Rating: *; Supplier 1: Mouser; RoHS: Yes; Category: Connectors; Stock 1: 150268; Pricing 1: 1=0.27, 10=0.235, 50=0.235, 100=0.179, 1000=0.124, 10000=0.123 (USD); Mount: Board; Contact Material: Bronze; Contact Finish - Mating: MATTE TIN OVER NICKEL (50); Contact Finish - Termination: Tin (Sn) - with Nickel (Ni) barrier; Insulation Color: Black; Insulation Material: Glass; Connector Type: BOARD CONNECTOR; JESD-609 Code: e3; Body/Shell Style: RECEPTACLE; Contact Gender: Male; Mixed Contacts: No; Mounting Style: STRAIGHT; Number Of PCB Rows: 1; Number of Rows Loaded: 1; PCB Contact Pattern: RECTANGULAR; Termination: Solder; Body Breadth: 0.1inch; Body Depth: 0.1inch; Mating Contact Pitch: 0.1inch; Terminal Length: 0.1inch; Terminal Pitch: 2.54mm; Flammability Rating: UL94 V-0; Reach SVHC Compliant: Yes; RoHS Compliant: Yes; DIN Conformance: No; IEC Conformance: No; MIL Conformance: No; ComponentLink2URL: https://datasheet.ciiva.com:443/pdfs/VipMasterIC/IC/SAMI/SAMI-S-A0003531373/SAMI-S-A0003531373-1.pdf?src-supplier=IHS+Markit; ComponentLink2Description: https://datasheet.ciiva.com:443/pdfs/VipMasterIC/IC/SAMI/SAMI-S-A0003531373/SAMI-S-A0003531373-1.pdf?src-supplier=IHS+Markit; ComponentLink3URL: https://datasheet.ciiva.com/6890/tsw-xxx-xx-xxx-x-xx-xxx-mkt-6890268.pdf?src-supplier=Digi-Key; ComponentLink3Description: https://datasheet.ciiva.com/6890/tsw-xxx-xx-xxx-x-xx-xxx-mkt-6890268.pdf?src-supplier=Digi-Key; Supplier Part Number 1: 200-TSW10307TS
footprint SMTC-TSW-103-07-X-S (.025 SQ Post Terminal Strip Assembly, 1x3 Pins, Vertical, 2.54mm Pitch, Male)
pins: 1, 2, 3

## U.FL-R-SMT-1_10_
designator J?
Connector; Manufacturer_Name: Hirose; Manufacturer_Part_Number: U.FL-R-SMT-1(10); Datasheet Link: https://www.hirose.com/product/document?clcode=CL0331-0472-2-10&productname=U.FL-R-SMT-1(10)&series=U.FL&documenttype=2DDrawing&lang=en&documentid=0000940684; Mouser Part Number: 798-U.FL-R-SMT-110; Mouser Price/Stock: https://www.mouser.co.uk/ProductDetail/Hirose-Connector/U.FL-R-SMT-110?qs=kL1ClTr6oBoOdtqlGQpQrQ%3D%3D; Arrow Part Number: U.FL-R-SMT-1(10); Arrow Price/Stock: https://www.arrow.com/en/products/u.fl-r-smt-1-10/hirose-electric
footprint U.FL-R-SMT-1(10)
pins: 1, 2, 3